# Altium schematic symbol library mountinghole.SchLib: 3 symbols
Pins are listed as number, name and electrical type; pins without a type are passive.

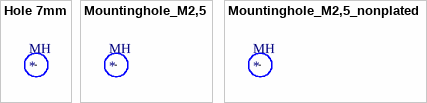
[diagram p0: symbols Hole 7mm to Mountinghole_M2,5_nonplated]

## Hole 7mm
designator MH
footprint HOLE_7mm
pins: 1

## Mountinghole_M2,5
designator MH
footprint Mountinghole M2,5
pins: 1

## Mountinghole_M2,5_nonplated
designator MH
footprint Mountinghole M2,5 non plated
pins: 1